# Altium schematic symbol library mcc.SchLib: 2 symbols
Pins are listed as number, name and electrical type; pins without a type are passive.

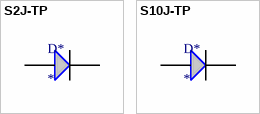
[diagram p0: symbols S2J-TP to S10J-TP]

## S2J-TP
designator D*
S2J-TP
footprint DO-214AA (Silicone Rectififer Diode)
pins: 1, 2

## S10J-TP
designator D*
S2J-TP
footprint DO-214AB (Silicone Rectififer Diode)
pins: 1, 2